# EAGLE library part LCD-TEXT (library dooba)
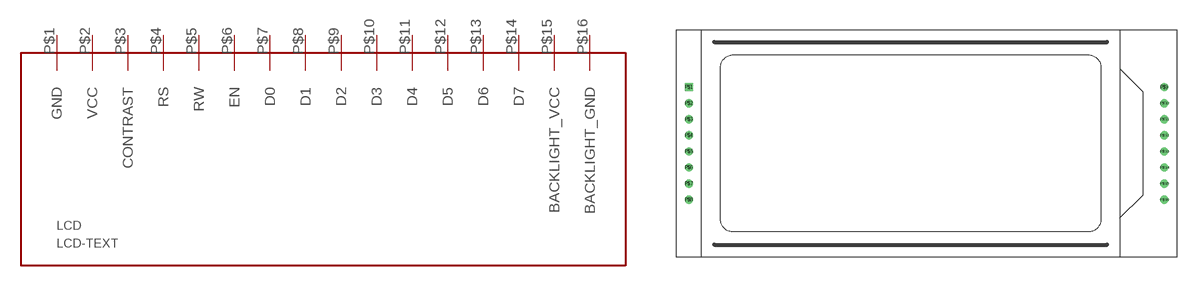
[diagram p18: symbol with the pads of LCD-NH-0420-H1Z; footprint LCD-NH-0420-H1Z]

Designator prefix LCD

## LCD-TEXTNH-0420-H1Z  [LCD-NH-0420-H1Z]
P$1  GND
P$2  VCC
P$3  CONTRAST
P$4  RS
P$5  RW
P$6  EN
P$7  D0
P$8  D1
P$9  D2
P$10  D3
P$11  D4
P$12  D5
P$13  D6
P$14  D7
P$15  BACKLIGHT_VCC
P$16  BACKLIGHT_GND

## Footprint LCD-NH-0420-H1Z (pad centres in mm)
drill 0.8 square: P$1 -35,8.89
drill 0.8: P$2 -35,6.35; P$3 -35,3.81; P$4 -35,1.27; P$5 -35,-1.27; P$6 -35,-3.81; P$7 -35,-6.35; P$8 -35,-8.89; P$9 40,8.89; P$10 40,6.35; P$11 40,3.81; P$12 40,1.27; P$13 40,-1.27; P$14 40,-3.81; P$15 40,-6.35; P$16 40,-8.89